# Altium integrated library inductor.IntLib: 1 symbol
Pins are listed as number, name and electrical type; pins without a type are passive.

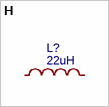
[diagram p0: symbol H]

## H
designator L?, comment 22uH
BOM_Manufacturer: Chilisin Elec; BOM_Manufacturer Part: LVS201610-220M-N; nameAlias: Inductance; Contributor: LCSC; BOM_Supplier: LCSC; BOM_Supplier Part: C285846; spicePre: L; spiceSymbolName: LVS201610-220M-N
footprint IND-SMD_L2.0-W1.6_VLS201610ET
footprint IND-SMD_L2.5-W2.0_VLS2520X
footprint IND_RLS-397
pins: 1, 2